# EAGLE library part MICROSD-CD (library Sensors)
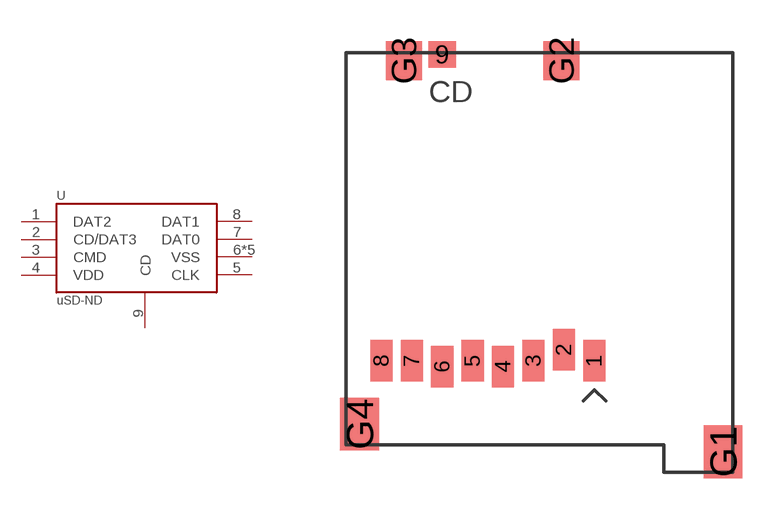
[diagram p6: symbol with the pads of MOLEX_SD-47352-101; footprint MOLEX_SD-47352-101]

Designator prefix -

## MICROSD-CD  [MOLEX_SD-47352-101]
1  DAT2
2  CD/DAT3
3  CMD
4  VDD
5  CLK
6  VSS
7  DAT0
8  DAT1
9  CD
G1  VSS
G2  VSS
G3  VSS
G4  VSS

## Footprint MOLEX_SD-47352-101 (pad centres in mm)
1.10mm Pitch microSD Card Connector, Push-Push Type, with VSS (Supply Voltage Ground) Detect Switch, Lead-Free
smd 0.8 x 1.5: 1 9.19,3.24; 2 8.09,3.64; 3 6.99,3.24; 4 5.89,3.04; 5 4.79,3.24; 6 3.69,3.04; 7 2.59,3.24; 8 1.49,3.24
smd 1 x 0.95: 9 3.69,14.325
smd 1.4 x 1.9: G1 13.85,-0.05; G4 0.7,0.95
smd 1.3 x 1.4: G2 8,14.1; G3 2.3,14.1